# Altium footprint library MECH_HEXNUT.PcbLib: 11 footprints
Each footprint in its own frame and in the unit in brackets; x right, y up, seen from the top. Pads: shape width x height; smd on the part's side, far side on the other; paste and mask are expansions set on the pad; w line width, h text height; cw(c..) or ccw(c..) is an arc to the next point about the centre after c.
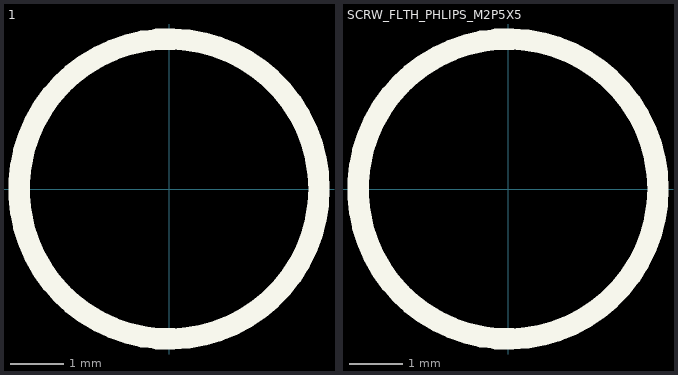
[diagram p0: the footprints below, top view; thin cyan lines are the x and y axes]

## 1 [mm] "SCREW, M2.5, 2.5mm diameter and 5.0mm PanHead"
Top Overlay:
  circle w0.4: c0,0 r2.8

## SCRW_FLTH_PHLIPS_M2P5X5 [mm] "SCREW, M3, 2.5mm diameter and 5.0mm FlatHead, Phillips, 5mm length"
Top Overlay:
  circle w0.4: c0,0 r2.8
3D body "Phillips Pan head M2.5X0.45 L 5mm ISO Metric Screw.STEP": height 2.1, standoff -5, extent -2.5,-2.5 2.5,2.5

## SCRW_PANH_PHLIPS_M2X4 [mm] "SCREW, M3, 2.0mm diameter and 4.0mm PanHead, Phillips, 4mm length"
3D body "screw_m2x4.stp": height 1.57, standoff -4, extent -2,-2 2,2

## SCRW_PANH_PHLIPS_M3X5 [mm] "SCREW, M3, 3.0mm diameter and 6.0mm PanHead, Phillips, 5mm Length"
3D body "Screw_M3x5.stp": height 2.28, standoff -5, extent -2.745,-2.745 2.745,2.745

## SCRW_PANH_PHLIPS_M4X8 [mm] "SCREW, M3, 4.0mm diameter and 8.0mm PanHead, Phillips, 8mm length"
3D body "PanHeadCrossRecessedScrew_M4x5.STEP": height 3.3, standoff -4.7, extent -4,-4 4,4

## SCRW_PANH_SLOT_M2P5X5 [mm] "SCREW, M3, 2.0mm diameter and 5.0mm PanHead, Slotted, 5mm length"
3D body "SCREW_PANH_m2.5.step": height 1.4, standoff -5.03, extent -2.425,-2.425 2.425,2.425

## SCRW_PANH_SLOT_M2X4 [mm] "SCREW, M3, 2.0mm diameter and 4.0mm PanHead, Slotted, 4mm length"
3D body "SCREW_PANH_m2.step": height 1.2, standoff -3.93, extent -1.925,-1.925 1.925,1.925

## SCRW_PANH_SLOT_M3X5 [mm] "SCREW, M3, 3.0mm diameter and 6.0mm PanHead, Slotted, 5mm length"
3D body "SCREW_PANH_m3_5mm.step": height 1.8, standoff -4.93, extent -2.925,-2.925 2.925,2.925

## SCRW_PANH_SLOT_M4X6 [mm] "SCREW, M3, 4.0mm diameter and 8.0mm PanHead, Slotted, 6mm length"
3D body "SCREW_PANH_m4_6mm.step": height 2.2, standoff -5.83, extent -3.91,-3.91 3.91,3.91

## SCRW_PANH_SLOT_M5X8 [mm] "SCREW, M3, 5.0mm diameter and 10mm PanHead, Slotted, 8mm length"
3D body "SCREW_PANH_m5_8mm.step": height 3.2, standoff -7.73, extent -4.91,-4.91 4.91,4.91

## SCRW_PANH_SLOT_M6X10 [mm] "SCREW, M3, 6.0mm diameter and 12mm PanHead, Slotted, 10mm length"
3D body "SCREW_PANH_m6_10mm.step": height 4, standoff -9.51, extent -5.895,-5.895 5.895,5.895